# EAGLE library part SI5317 (library si5317_10)
Pin-Controlled 1–711 MHz Jitter Cleaning Clock Source: http://www.silabs.com/Support%20Documents/TechnicalDocs/Si5317.pdf
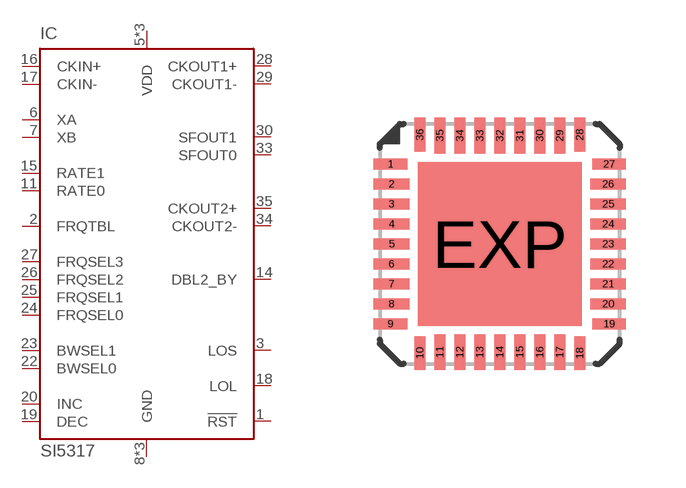
[diagram p0: symbol with the pads of QFN36-6X6; footprint QFN36-6X6]

Designator prefix IC

## SI5317A-C-GM (MF: Silicon Labs; MPN: Si5317A-C-GM; OC_FARNELL: unknown; OC_NEWARK: unknown), SI5317B-C-GM (MF: Silicon Labs; MPN: Si5317B-C-GM; OC_FARNELL: unknown; OC_NEWARK: unknown), SI5317C-C-GM (MF: Silicon Labs; MPN: Si5317C-C-GM; OC_FARNELL: 2421755; OC_NEWARK: 54X5508), SI5317D-C-GM (MF: Silicon Labs; MPN: Si5317D-C-GM; OC_FARNELL: unknown; OC_NEWARK: unknown)  [QFN36-6X6]
1  !RST  pas
2  FRQTBL  pas
3  LOS  out
5  VDD  pwr
6  XA  in
7  XB  in
8  GND  pwr
10  VDD  pwr
11  RATE0  pas
14  DBL2_BY  pas
15  RATE1  pas
16  CKIN+  in
17  CKIN-  in
18  LOL  out
19  DEC  pas
20  INC  pas
22  BWSEL0  pas
23  BWSEL1  pas
24  FRQSEL0  pas
25  FRQSEL1  pas
26  FRQSEL2  pas
27  FRQSEL3  pas
28  CKOUT1+  out
29  CKOUT1-  out
30  SFOUT1  pas
31  GND  pwr
32  VDD  pwr
33  SFOUT0  pas
34  CKOUT2-  out
35  CKOUT2+  out
EXP  GND  pwr

## Footprint QFN36-6X6 (pad centres in mm)
36-Lead Plastic Quad Flat No Lead Package - 6x6 mm Body [QFN] Source: http://www.silabs.com/Support%20Documents/TechnicalDocs/Si5317.pdf
smd 0.84 x 0.28: 1 -2.735,2; 9 -2.735,-2; 19 2.735,-2; 27 2.735,2
smd 0.89 x 0.28: 2 -2.71,1.5; 3 -2.71,1; 4 -2.71,0.5; 5 -2.71,0; 6 -2.71,-0.5; 7 -2.71,-1; 8 -2.71,-1.5; 20 2.71,-1.5; 21 2.71,-1; 22 2.71,-0.5; 23 2.71,0; 24 2.71,0.5; 25 2.71,1; 26 2.71,1.5
smd 0.28 x 0.84: 10 -2,-2.735; 18 2,-2.735; 28 2,2.735; 36 -2,2.735
smd 0.28 x 0.89: 11 -1.5,-2.71; 12 -1,-2.71; 13 -0.5,-2.71; 14 0,-2.71; 15 0.5,-2.71; 16 1,-2.71; 17 1.5,-2.71; 29 1.5,2.71; 30 1,2.71; 31 0.5,2.71; 32 0,2.71; 33 -0.5,2.71; 34 -1,2.71; 35 -1.5,2.71
smd 4.1 x 4.1: EXP 0,0